# EAGLE library part 686310124422 (library Wuerth_Elektronik_eiCan_03_ZIF_Connectors_&_Flat_Flexible_Cable)
WR-FPC-1.00mm SMT ZIF Vertical Type A,10 pins
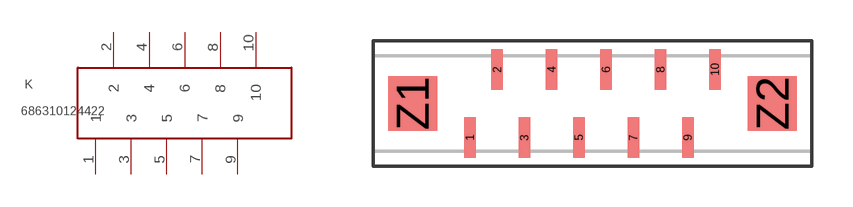
[diagram p125: symbol with the pads of 686310124422; footprint 686310124422]

Designator prefix K

## 686310124422  [686310124422]
1  1
2  2
3  3
4  4
5  5
6  6
7  7
8  8
9  9
10  10

## Footprint 686310124422 (pad centres in mm)
WR-FPC-1.00mm SMT ZIF Vertical Type A,10 pins
smd 0.42 x 1.5: 1 -4.04,-1.25; 2 -3.04,1.25; 3 -2.04,-1.25; 4 -1.04,1.25; 5 -0.04,-1.25; 6 0.96,1.25; 7 1.96,-1.25; 8 2.96,1.25; 9 3.96,-1.25; 10 4.96,1.25
smd 1.8 x 2: Z1 -6.15,0; Z2 7.07,0